# Altium schematic symbol library Diodes Incorporated - Switching Regulator.SchLib: 3 symbols
Pins are listed as number, name and electrical type; pins without a type are passive.

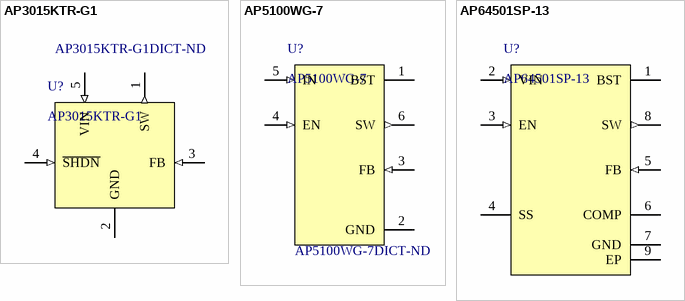
[diagram p0: symbols AP3015KTR-G1 to AP64501SP-13]

## AP3015KTR-G1
designator U?  Supplier Part Number 1: AP3015KTR-G1DICT-ND
Boost Switching Regulator IC Positive Adjustable 1.23V 1 Output 300mA (Switch) SC-74A, SOT-753; Manufacturer: Diodes; Number of Outputs: 1; Max Output Current: 350mA; Min Input Voltage: 1.2V; Max Input Voltage: 12V; Efficiency: 81%; Max Output Voltage: 34V; Switching Frequency: 150kHz; Synchronous Rectifier: No; Operating Supply Current: 17uA; Supplier 1: Digi-Key; Manufacturer Part Number: AP3015KTR-G1; RoHS: Yes; Category: Voltage Regulators - Switching; Stock 1: 190876; Pricing 1: 1=0,76000, 10=0,66500, 25=0,62440, 100=0,50950, 250=0,47328, 500=0,40280, 1000=0,32224 (USD); Mount: Surface Mount; Case/Package: SOT-23-5; Number of Pins: 5; Weight: 0.001058oz; Min Operating Temperature: -40°C; Max Operating Temperature: 85°C; Package Quantity: 3000; Packaging: Tape and Reel; Min Output Voltage: 1.23V; Output Current: 300mA; Output Voltage: 34V; Min Supply Voltage: 1.2V; Topology: Boost; Output Type: Adjustable; Output Configuration: Positive; Lead Free: Lead Free; RoHS Compliant: Yes; ComponentLink1URL: https://datasheet.ciiva.com/29737/ap3015-a-29737023.pdf?src-supplier=Digi-Key; ComponentLink1Description: https://datasheet.ciiva.com/29737/ap3015-a-29737023.pdf?src-supplier=Digi-Key; ComponentLink2URL: https://datasheet.ciiva.com/29737/ap3015-a-29737020.pdf?src-supplier=Digi-Key; ComponentLink2Description: https://datasheet.ciiva.com/29737/ap3015-a-29737020.pdf?src-supplier=Digi-Key
footprint SOT95P280X145-5N (SOT23, 5-Leads, Body 2,92x2,80mm, Pitch 0,95mm, IPC Medium Density)
pins: 1 SW (out), 2 GND (power), 3 FB (in), 4 ~{SHDN} (in), 5 VIN (in)

## AP5100WG-7
designator U?  Supplier Part Number 1: AP5100WG-7DICT-ND
Buck Switching Regulator IC Positive Adjustable 0.81V 1 Output 1.2A SOT-23-6; MF: Diodes Inc.; MP: AP5100WG-7; Digi-Key_Purchase_URL: https://www.digikey.com/product-detail/en/diodes-incorporated/AP5100WG-7/AP5100WG-7DICT-ND/2277839?utm_source=snapeda&utm_medium=aggregator&utm_campaign=symbol; Package: SOT-23-6 Diodes Inc.; SnapEDA_Link: https://www.snapeda.com/parts/AP5100WG-7/Diodes%20Inc./view-part/44386/?ref=snap; Value: *; Digi-Key_Part_Number: AP5100WG-7DICT-ND; Supplier 1: Digi-Key
footprint SOT95P285X130-6N (SOT23, 6-Leads, Body 3,00x2,85mm, Pitch 0,95mm, IPC Medium Density)
pins: 1 BST, 2 GND (power), 3 FB (in), 4 EN (in), 5 IN (in), 6 SW (out)

## AP64501SP-13
designator U?
3.8V to 40V Input 5A Low IQ Synchronous Buck Converter with Programmable Soft-Start Time 8-Pin SOIC EP T/R; Manufacturer: Diodes; Supplier: Digikey; Supplier Part Number: 31-AP64501SP-13CT-ND; Manufacturer Part Number: AP64501SP-13; RoHS: Yes; Category: Voltage Regulators - Switching; Stock: 112123; Pricing: 1=2,3, 10=2,067, 25=1,9504, 100=1,6617, 250=1,56024, 500=1,36522, 1000=1,13118 (USD)
footprint SOIC127P600X150_HS-9N (SOIC, 8-Leads, Body 4,90x3,85mm, Pitch 1,27mm, Thermal Pad 3,35x2,71mm, IPC Medium Density)
pins: 1 BST, 2 VIN (in), 3 EN (in), 4 SS, 5 FB (in), 6 COMP, 7 GND (power), 8 SW (out), 9 EP (power)